# Altium integrated library 5 Pin Header Male.IntLib: 1 symbol
Pins are listed as number, name and electrical type; pins without a type are passive.

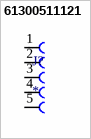
[diagram p0: symbol 61300511121]

## 61300511121
designator J?
Connector Header Through Hole 5 position 0.100 (2.54mm); MF: WÃ¼rth Elektronik; MP: 61300511121; Check_prices: https://www.snapeda.com/parts/61300511121/Wurth+Elektronik/view-part/?ref=eda; Value: *; Purchase-URL: https://pricing.snapeda.com/search/part/61300511121/?ref=eda; Price: None; SnapEDA_Link: https://www.snapeda.com/parts/61300511121/Wurth+Elektronik/view-part/?ref=snap; Availability: In Stock; Package: None
footprint 61300511121
pins: 1, 2, 3, 4, 5